# EAGLE library part ST-MORPHO (library st-morpho)
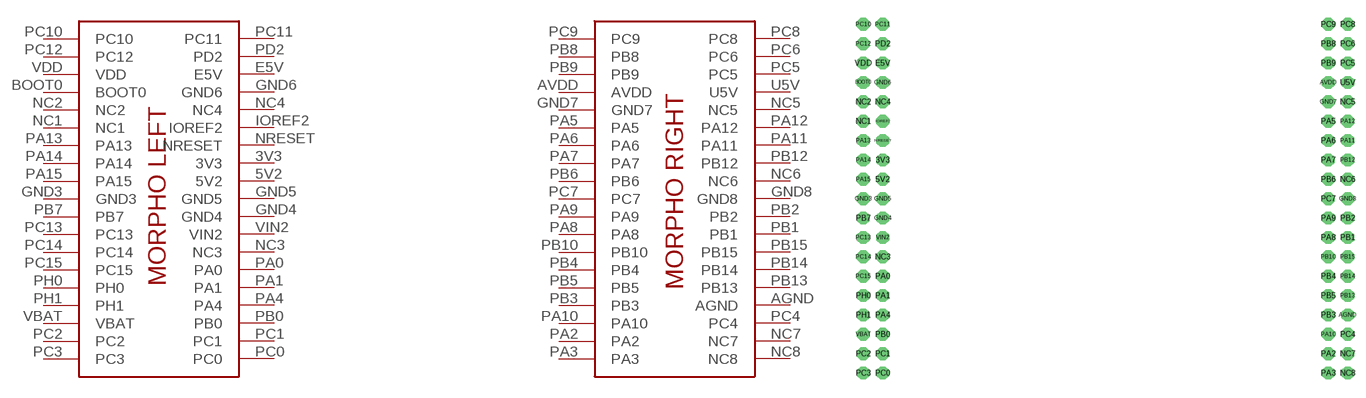
[diagram p0: symbol with the pads of ST-MORPHO; footprint ST-MORPHO]

Designator prefix -

## ST-MORPHO  [ST-MORPHO]
3V3  3V3  pwr
5V2  5V2  pwr
AGND  AGND  pwr
AVDD  AVDD  pwr
BOOT0  BOOT0
E5V  E5V  pwr
GND3  GND3  pwr
GND4  GND4  pwr
GND5  GND5  pwr
GND6  GND6  pwr
GND7  GND7  pwr
GND8  GND8  pwr
IOREF2  IOREF2  in
NC1  NC1  nc
NC2  NC2  nc
NC3  NC3  nc
NC4  NC4  nc
NC5  NC5  nc
NC6  NC6  nc
NC7  NC7  nc
NC8  NC8  nc
NRESET  NRESET  in
PA0  PA0
PA1  PA1
PA2  PA2
PA3  PA3
PA4  PA4
PA5  PA5
PA6  PA6
PA7  PA7
PA8  PA8
PA9  PA9
PA10  PA10
PA11  PA11
PA12  PA12
PA13  PA13
PA14  PA14
PA15  PA15
PB0  PB0
PB1  PB1
PB2  PB2
PB3  PB3
PB4  PB4
PB5  PB5
PB6  PB6
PB7  PB7
PB8  PB8
PB9  PB9
PB10  PB10
PB12  PB12
PB13  PB13
PB14  PB14
PB15  PB15
PC0  PC0
PC1  PC1
PC2  PC2
PC3  PC3
PC4  PC4
PC5  PC5
PC6  PC6
PC7  PC7
PC8  PC8
PC9  PC9
PC10  PC10
PC11  PC11
PC12  PC12
PC13  PC13
PC14  PC14
PC15  PC15
PD2  PD2
PH0  PH0
PH1  PH1
U5V  U5V  pwr
VBAT  VBAT  pwr
VDD  VDD  pwr
VIN2  VIN2  pwr

## Footprint ST-MORPHO (pad centres in mm)
drill 1 pad 1.676 octagon: 3V3 -28.5,-3.81; 5V2 -28.5,-6.35; AGND 32.46,-24.13; AVDD 29.92,6.35; BOOT0 -31.04,6.35; E5V -28.5,8.89; GND3 -31.04,-8.89; GND4 -28.5,-11.43; GND5 -28.5,-8.89; GND6 -28.5,6.35; GND7 29.92,3.81; GND8 32.46,-8.89; IOREF2 -28.5,1.27; NC1 -31.04,1.27; NC2 -31.04,3.81; NC3 -28.5,-16.51; NC4 -28.5,3.81; NC5 32.46,3.81; NC6 32.46,-6.35; NC7 32.46,-29.21; NC8 32.46,-31.75; NRESET -28.5,-1.27; PA0 -28.5,-19.05; PA1 -28.5,-21.59; PA2 29.92,-29.21; PA3 29.92,-31.75; PA4 -28.5,-24.13; PA5 29.92,1.27; PA6 29.92,-1.27; PA7 29.92,-3.81; PA8 29.92,-13.97; PA9 29.92,-11.43; PA10 29.92,-26.67; PA11 32.46,-1.27; PA12 32.46,1.27; PA13 -31.04,-1.27; PA14 -31.04,-3.81; PA15 -31.04,-6.35; PB0 -28.5,-26.67; PB1 32.46,-13.97; PB2 32.46,-11.43; PB3 29.92,-24.13; PB4 29.92,-19.05; PB5 29.92,-21.59; PB6 29.92,-6.35; PB7 -31.04,-11.43; PB8 29.92,11.43; PB9 29.92,8.89; PB10 29.92,-16.51; PB12 32.46,-3.81; PB13 32.46,-21.59; PB14 32.46,-19.05; PB15 32.46,-16.51; PC0 -28.5,-31.75; PC1 -28.5,-29.21; PC2 -31.04,-29.21; PC3 -31.04,-31.75; PC4 32.46,-26.67; PC5 32.46,8.89; PC6 32.46,11.43; PC7 29.92,-8.89; PC8 32.46,13.97; PC9 29.92,13.97; PC10 -31.04,13.97; PC11 -28.5,13.97; PC12 -31.04,11.43; PC13 -31.04,-13.97; PC14 -31.04,-16.51; PC15 -31.04,-19.05; PD2 -28.5,11.43; PH0 -31.04,-21.59; PH1 -31.04,-24.13; U5V 32.46,6.35; VBAT -31.04,-26.67; VDD -31.04,8.89; VIN2 -28.5,-13.97